# Altium footprint library DFN400X400X80-11N.PcbLib: 1 footprints
Each footprint in its own frame and in the unit in brackets; x right, y up, seen from the top. Pads: shape width x height; smd on the part's side, far side on the other; paste and mask are expansions set on the pad; w line width, h text height; cw(c..) or ccw(c..) is an arc to the next point about the centre after c.
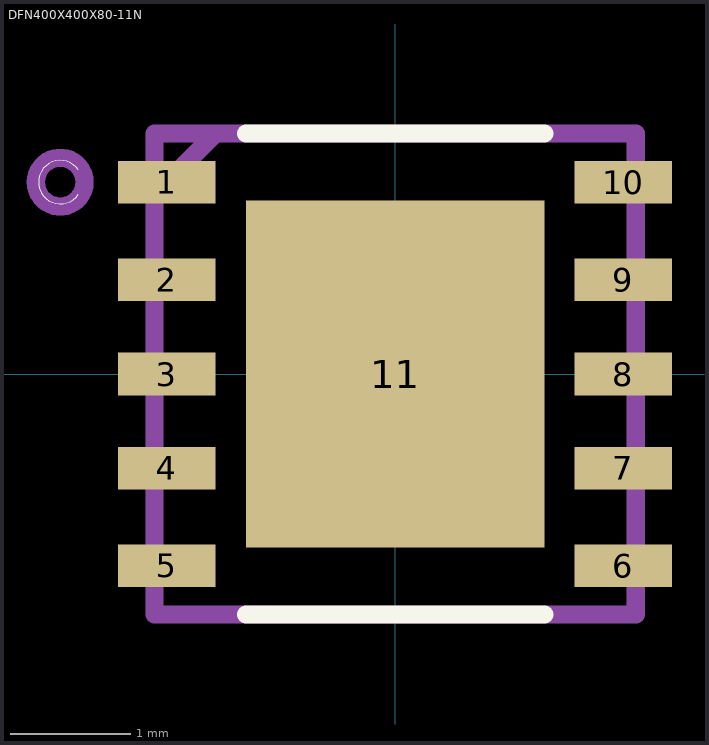
[diagram p0: the footprint, top view; thin cyan lines are the x and y axes]

## DFN400X400X80-11N [mil]
pads (11):
  rect 32x14 smd: 1(-75,63) 2(-75,31) 3(-75,0) 4(-75,-31) 5(-75,-63) 6(75,-63) 7(75,-31) 8(75,0) 9(75,31) 10(75,63)
  rect 98x114 smd: 11(0,0)
Top Overlay:
  lines w0: -104,59 cw(c-109.93,63) -104,67
  lines w6: -49,-79 49,-79 ; -49,79 49,79
Mechanical 13:
  lines w6: -79,59 -59,79 ; -118,63 ccw(c-110,63) -102,63 ccw(c-110,63) -118,63 ; -79,-79 79,-79 79,79 -79,79 -79,-79
3D body "step_temp.STEP": height 31.5, standoff 0, extent -78.74,-78.74 78.74,78.74